# Altium schematic symbol library AP2210N-3.3TRG1.SchLib: 1 symbol
Pins are listed as number, name and electrical type; pins without a type are passive.

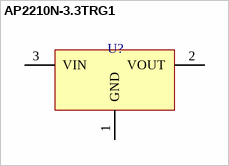
[diagram p0: symbol AP2210N-3.3TRG1]

## AP2210N-3.3TRG1
designator U?  (value not drawn)
pins: 1 GND, 2 VOUT, 3 VIN